# Altium footprint library MR26.PCBLIB: 50 footprints (part 2 of 4)
Each footprint in its own frame and in the unit in brackets; x right, y up, seen from the top. Pads: shape width x height; smd on the part's side, far side on the other; paste and mask are expansions set on the pad; w line width, h text height; cw(c..) or ccw(c..) is an arc to the next point about the centre after c.
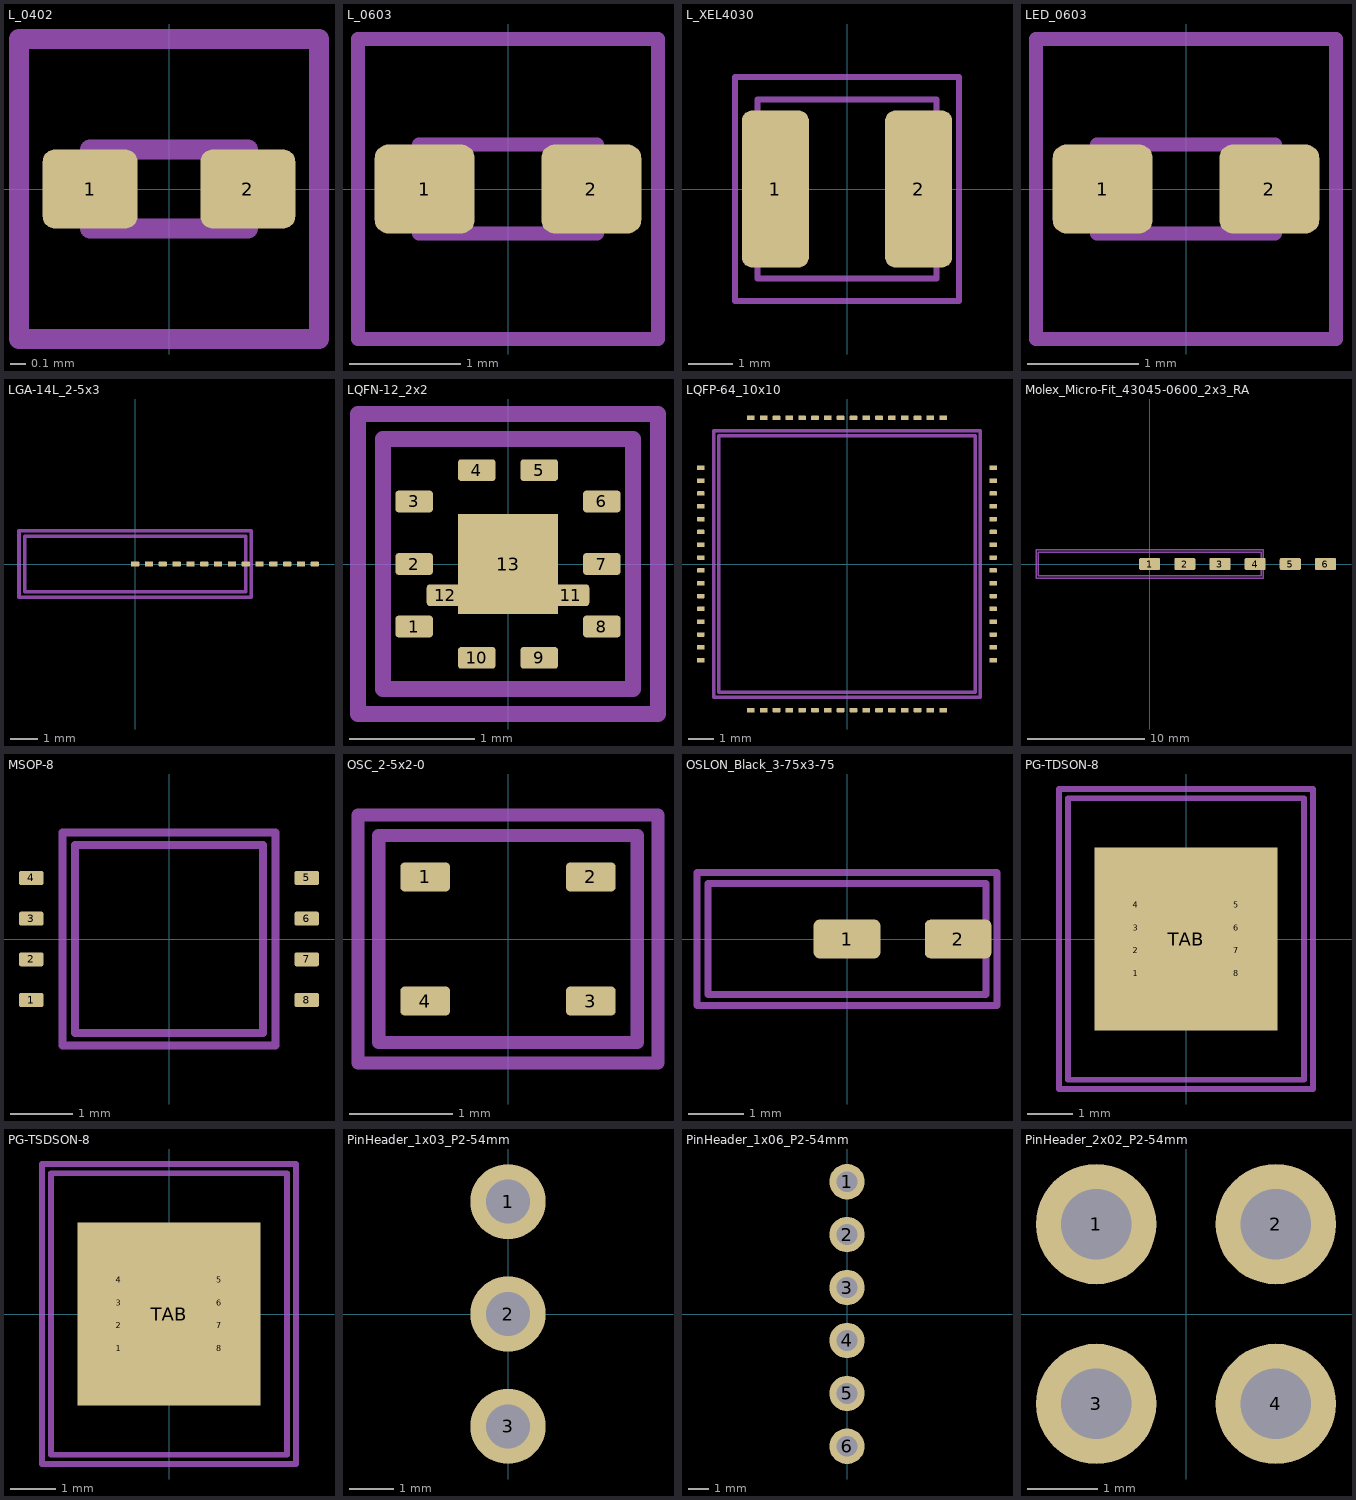
[diagram p1: the footprints below, top view; thin cyan lines are the x and y axes]

## L_0402 [mm]
pads (2):
  rrect30% 0.6x0.5 smd: 1(-0.5,0) 2(0.5,0)
tDocu:
  lines w0.127: -0.95,-0.95 0.95,-0.95 0.95,0.95 -0.95,0.95 -0.95,-0.95 ; -0.5,-0.25 0.5,-0.25 0.5,0.25 -0.5,0.25 -0.5,-0.25

## L_0603 [mil]
pads (2):
  rrect30% 35.43x31.5 smd: 1(-29.53,0) 2(29.53,0)
tDocu:
  lines w5: -53.15,-53.15 53.15,-53.15 53.15,53.15 -53.15,53.15 -53.15,-53.15 ; -31.5,-15.75 31.5,-15.75 31.5,15.75 -31.5,15.75 -31.5,-15.75

## L_XEL4030 [mm]
pads (2):
  rrect30% 1.5x3.5 smd: 1(-1.6,0) 2(1.6,0)
tDocu:
  lines w0.127: -2.5,-2.5 2.5,-2.5 2.5,2.5 -2.5,2.5 -2.5,-2.5 ; -2,-2 2,-2 2,2 -2,2 -2,-2

## LED_0603 [mil]
pads (2):
  rrect30% 35.43x31.5 smd: 1(-29.53,0) 2(29.53,0)
tDocu:
  lines w5: -53.15,-53.15 53.15,-53.15 53.15,53.15 -53.15,53.15 -53.15,-53.15 ; -31.5,-15.75 31.5,-15.75 31.5,15.75 -31.5,15.75 -31.5,-15.75

## LGA-14L_2-5x3 [mm]
pads (14):
  rrect30% 0.3x0.175 smd: 1(2.5,0) 2(4,0) 3(4.5,0) 4(3,0) 5(0.5,0) 6(6,0) 7(6.5,0) 8(0,0) 9(3.5,0) 10(5,0) 11(5.5,0) 12(1,0) 13(1.5,0) 14(2,0)
tDocu:
  lines w0.127: -4.2,-1.2 4.2,-1.2 4.2,1.2 -4.2,1.2 -4.2,-1.2 ; -4,-1 4,-1 4,1 -4,1 -4,-1

## LQFN-12_2x2 [mm]
pads (13):
  rrect30% 0.3x0.175 smd: 1(-0.75,-0.5) 2(-0.75,0) 3(-0.75,0.5) 4(-0.25,0.75) 5(0.25,0.75) 6(0.75,0.5) 7(0.75,0) 8(0.75,-0.5) 9(0.25,-0.75) 10(-0.25,-0.75) 11(0.5,-0.25) 12(-0.5,-0.25)
  rect 0.8x0.8 smd: 13(0,0)
tDocu:
  lines w0.127: -1.2,-1.2 1.2,-1.2 1.2,1.2 -1.2,1.2 -1.2,-1.2 ; -1,-1 1,-1 1,1 -1,1 -1,-1

## LQFP-64_10x10 [mm]
pads (64):
  rrect30% 0.3x0.175 smd: 1(-5.7,-3.75) 2(-5.7,-3.25) 3(-5.7,-2.75) 4(-5.7,-2.25) 5(-5.7,-1.75) 6(-5.7,-1.25) 7(-5.7,-0.75) 8(-5.7,-0.25) 9(-5.7,0.25) 10(-5.7,0.75) 11(-5.7,1.25) 12(-5.7,1.75) 13(-5.7,2.25) 14(-5.7,2.75) 15(-5.7,3.25) 16(-5.7,3.75) 17(-3.75,5.7) 18(-3.25,5.7) 19(-2.75,5.7) 20(-2.25,5.7) 21(-1.75,5.7) 22(-1.25,5.7) 23(-0.75,5.7) 24(-0.25,5.7) 25(0.25,5.7) 26(0.75,5.7) 27(1.25,5.7) 28(1.75,5.7) 29(2.25,5.7) 30(2.75,5.7) 31(3.25,5.7) 32(3.75,5.7) 33(5.7,3.75) 34(5.7,3.25) 35(5.7,2.75) 36(5.7,2.25) 37(5.7,1.75) 38(5.7,1.25) 39(5.7,0.75) 40(5.7,0.25) 41(5.7,-0.25) 42(5.7,-0.75) 43(5.7,-1.25) 44(5.7,-1.75) 45(5.7,-2.25) 46(5.7,-2.75) 47(5.7,-3.25) 48(5.7,-3.75) 49(3.75,-5.7) 50(3.25,-5.7) 51(2.75,-5.7) 52(2.25,-5.7) 53(1.75,-5.7) 54(1.25,-5.7) 55(0.75,-5.7) 56(0.25,-5.7) 57(-0.25,-5.7) 58(-0.75,-5.7) 59(-1.25,-5.7) 60(-1.75,-5.7) 61(-2.25,-5.7) 62(-2.75,-5.7) 63(-3.25,-5.7) 64(-3.75,-5.7)
tDocu:
  lines w0.127: -5.2,-5.2 5.2,-5.2 5.2,5.2 -5.2,5.2 -5.2,-5.2 ; -5,-5 5,-5 5,5 -5,5 -5,-5

## Molex_Micro-Fit_43045-0600_2x3_RA [mm]
pads (6):
  rrect30% 1.8x1.05 smd: 1(0,0) 2(3,0) 3(6,0) 4(9,0) 5(12,0) 6(15,0)
tDocu:
  lines w0.127: -9.7,-1.2 9.7,-1.2 9.7,1.2 -9.7,1.2 -9.7,-1.2 ; -9.5,-1 9.5,-1 9.5,1 -9.5,1 -9.5,-1

## MSOP-8 [mm]
pads (8):
  rrect30% 0.39x0.227 smd: 1(-2.2,-0.975) 2(-2.2,-0.325) 3(-2.2,0.325) 4(-2.2,0.975) 5(2.2,0.975) 6(2.2,0.325) 7(2.2,-0.325) 8(2.2,-0.975)
tDocu:
  lines w0.127: -1.7,-1.7 1.7,-1.7 1.7,1.7 -1.7,1.7 -1.7,-1.7 ; -1.5,-1.5 1.5,-1.5 1.5,1.5 -1.5,1.5 -1.5,-1.5

## OSC_2-5x2-0 [mil]
pads (4):
  rrect30% 18.9x11.02 smd: 1(-31.5,23.62) 2(31.5,23.62) 3(31.5,-23.62) 4(-31.5,-23.62)
tDocu:
  lines w5: -57.09,-47.24 57.09,-47.24 57.09,47.24 -57.09,47.24 -57.09,-47.24 ; -49.21,-39.37 49.21,-39.37 49.21,39.37 -49.21,39.37 -49.21,-39.37

## OSLON_Black_3-75x3-75 [mm]
pads (2):
  rrect30% 1.2x0.7 smd: 1(0,0) 2(2,0)
tDocu:
  lines w0.127: -2.7,-1.2 2.7,-1.2 2.7,1.2 -2.7,1.2 -2.7,-1.2 ; -2.5,-1 2.5,-1 2.5,1 -2.5,1 -2.5,-1

## PG-TDSON-8 [mm]
pads (9):
  rrect30% 0.39x0.227 smd: 1(-1.1,-0.75) 2(-1.1,-0.25) 3(-1.1,0.25) 4(-1.1,0.75) 5(1.1,0.75) 6(1.1,0.25) 7(1.1,-0.25) 8(1.1,-0.75)
  rect 4x4 smd: TAB(0,0)
tDocu:
  lines w0.127: -2.775,-3.275 2.775,-3.275 2.775,3.275 -2.775,3.275 -2.775,-3.275 ; -2.575,-3.075 2.575,-3.075 2.575,3.075 -2.575,3.075 -2.575,-3.075

## PG-TSDSON-8 [mm]
pads (9):
  rrect30% 0.39x0.227 smd: 1(-1.1,-0.75) 2(-1.1,-0.25) 3(-1.1,0.25) 4(-1.1,0.75) 5(1.1,0.75) 6(1.1,0.25) 7(1.1,-0.25) 8(1.1,-0.75)
  rect 4x4 smd: TAB(0,0)
tDocu:
  lines w0.127: -2.775,-3.275 2.775,-3.275 2.775,3.275 -2.775,3.275 -2.775,-3.275 ; -2.575,-3.075 2.575,-3.075 2.575,3.075 -2.575,3.075 -2.575,-3.075

## PinHeader_1x03_P2-54mm [mm]
pads (3):
  round 1.7 hole 1: 1(0,2.54) 2(0,0) 3(0,-2.54)

## PinHeader_1x06_P2-54mm [mm]
pads (6):
  round 1.7 hole 1: 1(0,6.35) 2(0,3.81) 3(0,1.27) 4(0,-1.27) 5(0,-3.81) 6(0,-6.35)

## PinHeader_2x02_P2-54mm [mm]
pads (4):
  round 1.7 hole 1: 1(-1.27,1.27) 2(1.27,1.27) 3(-1.27,-1.27) 4(1.27,-1.27)